# EAGLE library part SSFD_LOLIN32_WEMOS_CHINA_W_BATT (library SSFD - ESP32 WEMOS LOLIN CHINA W_BATT)
BY SEGASONICFAN DESIGNS HTTP://WWW.SEGASONICFAN.WIXSITE.COM/RETRO WEMOS ESP32 BREAKOUT 4MB CHINA WITH BATTERY CONNECTOR https://arduino-projekte.info/wemos-lolin32/ https://diyprojects.io/wemos-lolin32-new-development-board-esp32-e645-4mb-memory-lipo-battery-connector/
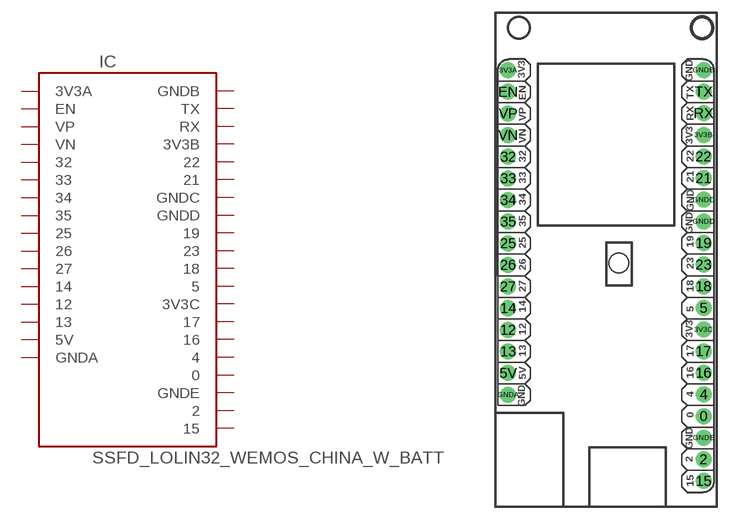
[diagram p0: symbol with the pads of SSFD_LOLIN32_WEMOS_CHINA_W_BATT; footprint SSFD_LOLIN32_WEMOS_CHINA_W_BATT]

Designator prefix IC

## SSFD_LOLIN32_WEMOS_CHINA_W_BATT  [SSFD_LOLIN32_WEMOS_CHINA_W_BATT]
0  0
2  2
3V3A  3V3A
3V3B  3V3B
3V3C  3V3C
4  4
5  5
5V  5V
12  12
13  13
14  14
15  15
16  16
17  17
18  18
19  19
21  21
22  22
23  23
25  25
26  26
27  27
32  32
33  33
34  34
35  35
EN  EN
GNDA  GNDA
GNDB  GNDB
GNDC  GNDC
GNDD  GNDD
GNDE  GNDE
RX  RX
TX  TX
VN  VN
VP  VP

## Footprint SSFD_LOLIN32_WEMOS_CHINA_W_BATT (pad centres in mm)
drill 1.016 pad 1.88: 0 11.43,-22.86; 2 11.43,-27.94; 3V3A -11.51,17.75; 3V3B 11.43,10.16; 3V3C 11.43,-12.7; 4 11.43,-20.32; 5 11.43,-10.16; 5V -11.51,-17.81; 12 -11.51,-12.73; 13 -11.51,-15.27; 14 -11.51,-10.19; 15 11.43,-30.48; 16 11.43,-17.78; 17 11.43,-15.24; 18 11.43,-7.62; 19 11.43,-2.54; 21 11.43,5.08; 22 11.43,7.62; 23 11.43,-5.08; 25 -11.51,-2.57; 26 -11.51,-5.11; 27 -11.51,-7.65; 32 -11.51,7.59; 33 -11.51,5.05; 34 -11.51,2.51; 35 -11.51,-0.03; EN -11.51,15.21; GNDA -11.51,-20.35; GNDB 11.43,17.78; GNDC 11.43,2.54; GNDD 11.43,0; GNDE 11.43,-25.4; RX 11.43,12.7; TX 11.43,15.24; VN -11.51,10.13; VP -11.51,12.67